# EAGLE library part DIP_SWITCH_4P (library TimeExpander)
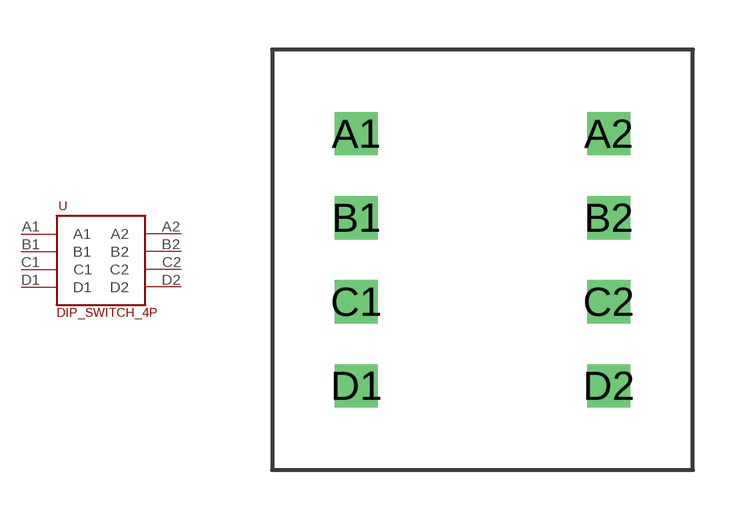
[diagram p13: symbol with the pads of DIP_SWITCH_4P; footprint DIP_SWITCH_4P]

Designator prefix -

## DIP_SWITCH_4P  [DIP_SWITCH_4P]
A1  A1
A2  A2
B1  B1
B2  B2
C1  C1
C2  C2
D1  D1
D2  D2

## Footprint DIP_SWITCH_4P (pad centres in mm)
drill 0.8 square: A1 0,7.62; A2 7.62,7.62; B1 0,5.08; B2 7.62,5.08; C1 0,2.54; C2 7.62,2.54; D1 0,0; D2 7.62,0